# Altium footprint library PHOENIX_1818216.PcbLib: 1 footprints
Each footprint in its own frame and in the unit in brackets; x right, y up, seen from the top. Pads: shape width x height; smd on the part's side, far side on the other; paste and mask are expansions set on the pad; w line width, h text height; cw(c..) or ccw(c..) is an arc to the next point about the centre after c.
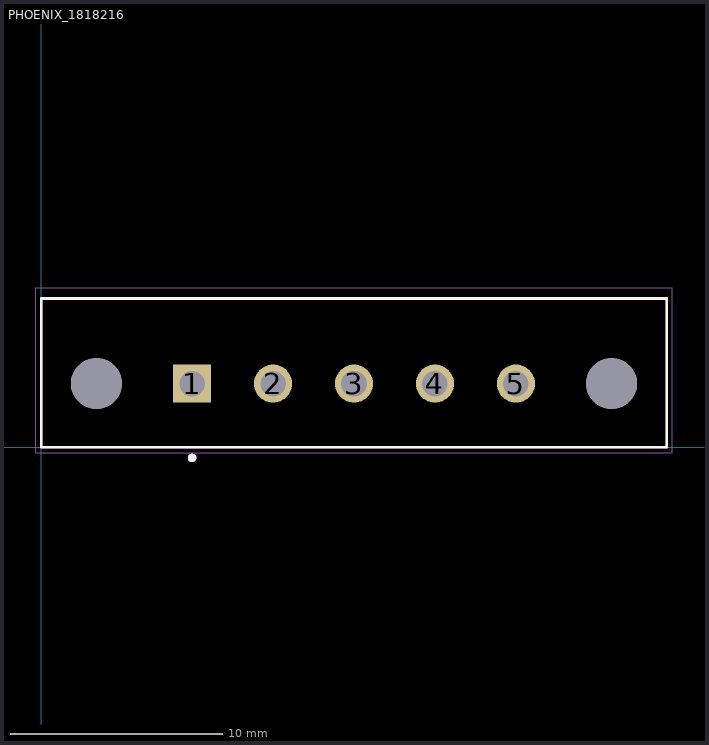
[diagram p0: the footprint, top view; thin cyan lines are the x and y axes]

## PHOENIX_1818216 [mm]
pads (7):
  rect 1.8x1.8 / inner round 1.8 / far side rect 1.8x1.8 hole 1.2 mask+0.102: 1(7.1,3)
  round 1.8 hole 1.2 mask+0.102: 2(10.91,3) 3(14.72,3) 4(18.53,3) 5(22.34,3)
  round 2.4 hole 2.4 unplated mask+0: ""(2.6,3) ""(26.84,3)
Top Overlay:
  circle w0.2: c7.1,-0.5 r0.1
  lines w0.127: 0,0 0,7 29.44,7 29.44,0 0,0
Assembly Top:
  circle w0.2: c7.1,-0.5 r0.1
  lines w0.127: 0,0 0,7 29.44,7 29.44,0 0,0
Courtyard Top:
  lines w0.05: -0.25,-0.25 -0.25,7.5 29.69,7.5 29.69,-0.25 -0.25,-0.25
3D body "1818216A.STEP": height 9.2, standoff -3.4, extent -0.103,-0.196 29.337,7.054